# EAGLE library part MCP3008 (library RoboJackets-ICs)
10 Bit Analog to Digital Converter 4, 8 Input 1 SAR 16-SOIC Datasheet <https://ww1.microchip.com/downloads/en/DeviceDoc/21295d.pdf>
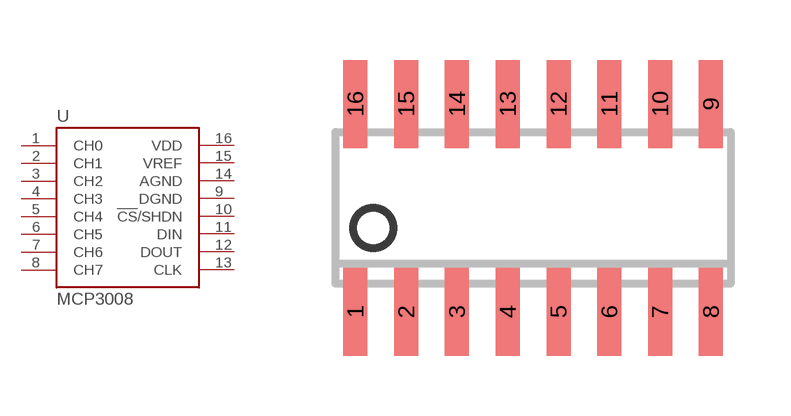
[diagram p2: symbol with the pads of SOIC-16; footprint SOIC-16]

Designator prefix U

## MCP3008SL (DKPN: MCP3008T-I/SLCT-ND)  [SOIC-16]
1  CH0
2  CH1
3  CH2
4  CH3
5  CH4
6  CH5
7  CH6
8  CH7
9  DGND
10  !CS!/SHDN
11  DIN
12  DOUT
13  CLK
14  AGND
15  VREF
16  VDD

## Footprint SOIC-16 (pad centres in mm)
smd 0.6 x 2.2: 1 -4.445,-2.6; 2 -3.175,-2.6; 3 -1.905,-2.6; 4 -0.635,-2.6; 5 0.635,-2.6; 6 1.905,-2.6; 7 3.175,-2.6; 8 4.445,-2.6; 9 4.445,2.6; 10 3.175,2.6; 11 1.905,2.6; 12 0.635,2.6; 13 -0.635,2.6; 14 -1.905,2.6; 15 -3.175,2.6; 16 -4.445,2.6